# Altium footprint library M55-7008042R.PcbLib: 1 footprints
Each footprint in its own frame and in the unit in brackets; x right, y up, seen from the top. Pads: shape width x height; smd on the part's side, far side on the other; paste and mask are expansions set on the pad; w line width, h text height; cw(c..) or ccw(c..) is an arc to the next point about the centre after c.
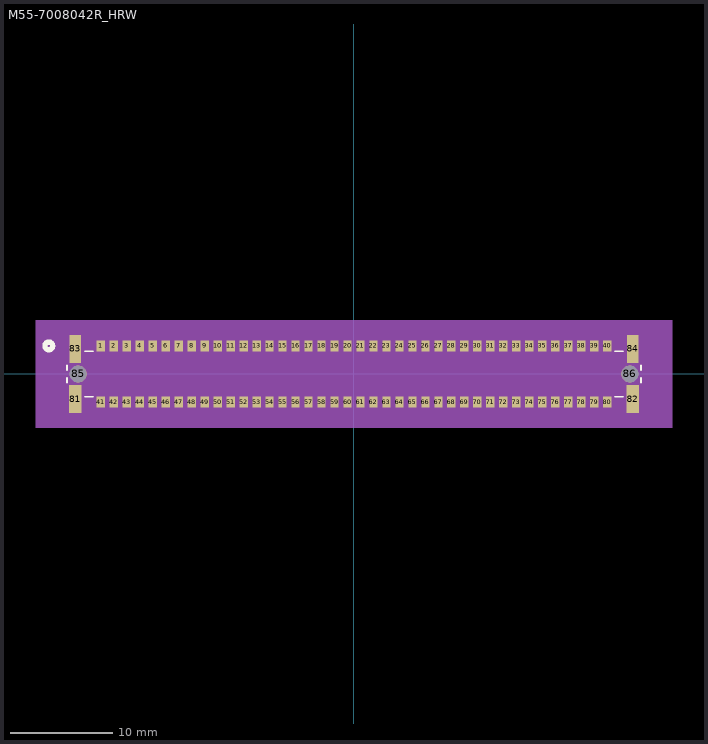
[diagram p0: the footprint, top view; thin cyan lines are the x and y axes]

## M55-7008042R_HRW [mil]
pads (86):
  rect 32x43 smd paste+0 mask+0: 1(-975,108.27) 2(-925,108.27) 3(-875,108.27) 4(-825,108.27) 5(-775,108.27) 6(-725,108.27) 7(-675,108.27) 8(-625,108.27) 9(-575,108.27) 10(-525,108.27) 11(-475,108.27) 12(-425,108.27) 13(-375,108.27) 14(-325,108.27) 15(-275,108.27) 16(-225,108.27) 17(-175,108.27) 18(-125,108.27) 19(-75,108.27) 20(-25,108.27) 21(25,108.27) 22(75,108.27) 23(125,108.27) 24(175,108.27) 25(225,108.27) 26(275,108.27) 27(325,108.27) 28(375,108.27) 29(425,108.27) 30(475,108.27) 31(525,108.27) 32(575,108.27) 33(625,108.27) 34(675,108.27) 35(725,108.27) 36(775,108.27) 37(825,108.27) 38(875,108.27) 39(925,108.27) 40(975,108.27) 41(-975,-108.27) 42(-925,-108.27) 43(-875,-108.27) 44(-825,-108.27) 45(-775,-108.27) 46(-725,-108.27) 47(-675,-108.27) 48(-625,-108.27) 49(-575,-108.27) 50(-525,-108.27) 51(-475,-108.27) 52(-425,-108.27) 53(-375,-108.27) 54(-325,-108.27) 55(-275,-108.27) 56(-225,-108.27) 57(-175,-108.27) 58(-125,-108.27) 59(-75,-108.27) 60(-25,-108.27) 61(25,-108.27) 62(75,-108.27) 63(125,-108.27) 64(175,-108.27) 65(225,-108.27) 66(275,-108.27) 67(325,-108.27) 68(375,-108.27) 69(425,-108.27) 70(475,-108.27) 71(525,-108.27) 72(575,-108.27) 73(625,-108.27) 74(675,-108.27) 75(725,-108.27) 76(775,-108.27) 77(825,-108.27) 78(875,-108.27) 79(925,-108.27) 80(975,-108.27)
  rect 47x106 smd: 81(-1073.23,-96.31) 82(1073.23,-96.31)
  rect 46x106 smd: 83(-1073.23,96.31) 84(1073.23,96.31)
  round 65 hole 65 unplated: 85(-1062.01,0) 86(1062.01,0)
Top Overlay:
  circle w20: c-1175,108.27 r15
  lines w6: -1105,-33.15 -1105,-15.2 ; -1105,15.2 -1105,33.57 ; -1037.13,87.5 -1004.1,87.5 ; -1036.63,-87.5 -1004.1,-87.5 ; 1004.1,-87.5 1036.63,-87.5 ; 1004.1,87.5 1037.13,87.5 ; 1105,-33.15 1105,-15.2 ; 1105,15.2 1105,33.57
Bottom Overlay:
  circle w20: c-1175,108.27 r15
Mechanical 5:
  region: -1225,207.5 1225,207.5 1225,-207.5 -1225,-207.5
Mechanical 13:
  circle w20: c-975,183.27 r15
  lines w1: -1100,-82.5 -1100,82.5 1100,82.5 1100,-82.5 -1100,-82.5
Mechanical 15:
  region: 1136.23,139.77 -1136.23,139.77 -1136.23,-139.77 1136.23,-139.77
  lines w6: -1136.23,-139.77 1136.23,-139.77 1136.23,139.77 -1136.23,139.77 -1136.23,-139.77
3D body: height 10, standoff 0, extent 0,0 10,10